# EAGLE library part EHHD024A0A (library display-r2)
18-75Vdc input 5Vdc output 24A/120W isolated DC-DC power module
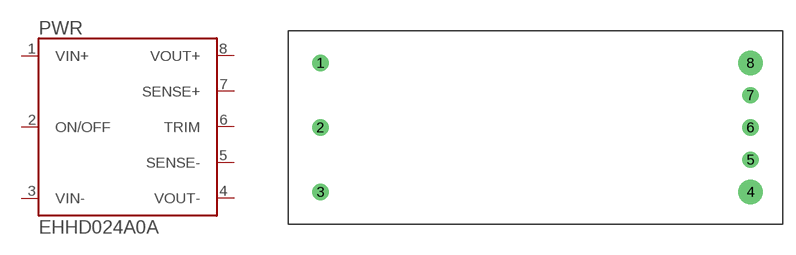
[diagram p0: symbol with the pads of PWR-1/4-BRICK; footprint PWR-1/4-BRICK]

Designator prefix PWR

## EHHD024A0A  [PWR-1/4-BRICK]
1  VIN+
2  ON/OFF
3  VIN-
4  VOUT-
5  SENSE-
6  TRIM
7  SENSE+
8  VOUT+

## Footprint PWR-1/4-BRICK (pad centres in mm)
drill 1.27: 1 3.81,19.05; 2 3.81,11.43; 3 3.81,3.81; 5 54.61,7.62; 6 54.61,11.43; 7 54.61,15.24
drill 1.93: 4 54.61,3.81; 8 54.61,19.05